# Altium footprint library all_kalex_Library.PcbLib: 234 footprints (part 11 of 15)
Each footprint in its own frame and in the unit in brackets; x right, y up, seen from the top. Pads: shape width x height; smd on the part's side, far side on the other; paste and mask are expansions set on the pad; w line width, h text height; cw(c..) or ccw(c..) is an arc to the next point about the centre after c.
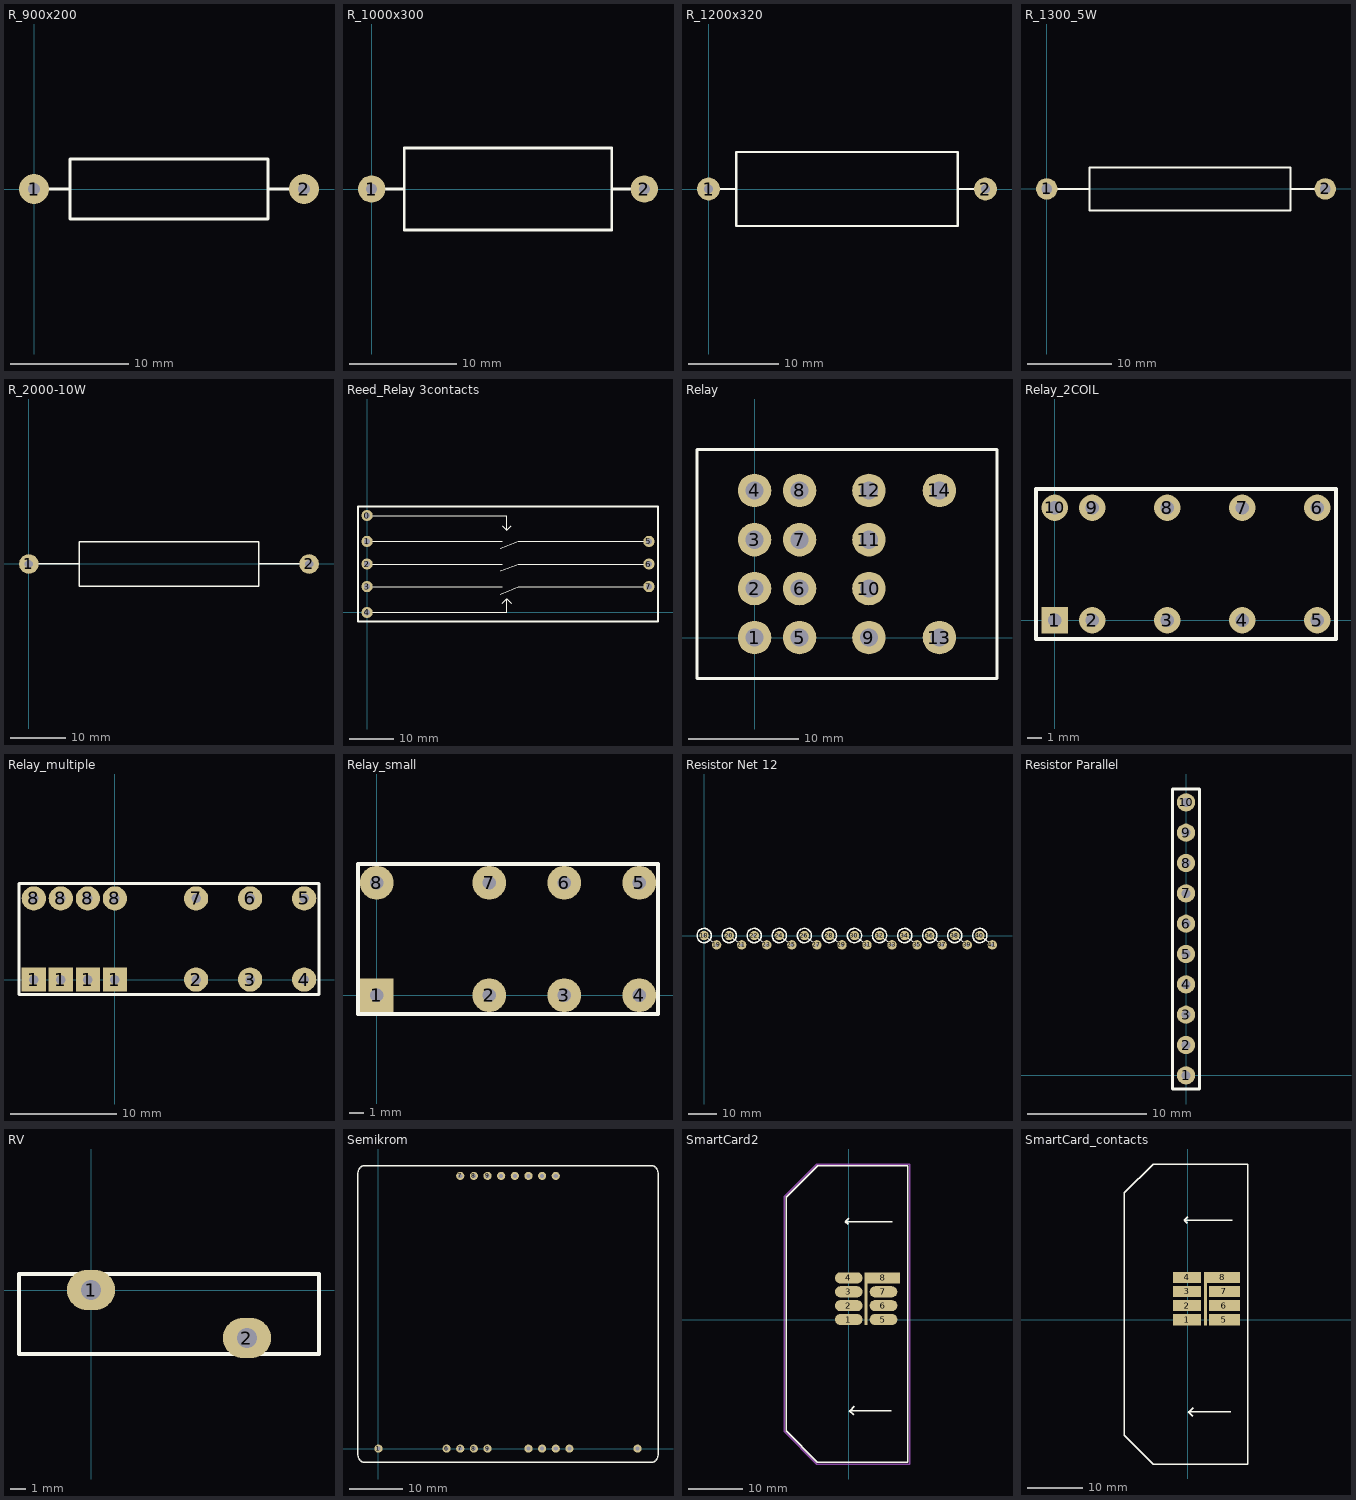
[diagram p10: the footprints below, top view; thin cyan lines are the x and y axes]

## R_900x200 [mil]
pads (2):
  round 100 hole 40: 1(0,0) 2(900,0)
Top Overlay:
  lines w10: 0,0 120,0 ; 780,0 900,0 ; 120,0 120,100 780,100 780,-100 120,-100 120,0

## R_1000x300 [mil]
pads (2):
  round 100 hole 40: 1(0,0) 2(1000,0)
Top Overlay:
  lines w10: 0,0 120,0 ; 880,0 1000,0 ; 120,-150 880,-150 880,150 120,150 120,-150

## R_1200x320 [mil]
pads (2):
  round 100 hole 40: 1(0,0) 2(1200,0)
Top Overlay:
  lines w10: 0,0 120,0 ; 1080,0 1200,0 ; 120,-160 120,160 1080,160 1080,-160 120,-160

## R_1300_5W [mil]
pads (2):
  round 100 hole 50 unplated: 1(0,0) 2(1300,0)
Top Overlay:
  lines w10: 0,0 199,0 200,1 ; 1137,0 1300,0 ; 200,1 200,100 1137,100 1137,-101 200,-101 200,1

## R_2000-10W [mil]
pads (2):
  round 140 hole 60: 1(0,0) 2(2000,0)
Top Overlay:
  lines w10: 0,0 360,0 ; 1640,0 2000,0 ; 360,0 360,-160 1640,-160 1640,160 360,160 360,0

## Reed_Relay 3contacts [mil]
pads (8):
  round 100 hole 50: 0(0,860) 1(0,630) 2(0,430) 3(0,230) 4(0,0) 5(2500,630) 6(2500,430) 7(2500,230)
Top Overlay:
  lines w5: 0,0 1240,0 1240,120 ; 0,230 1200,230 ; 0,430 1200,430 ; 0,630 1200,630 ; 0,860 1240,860 1240,730 ; 1180,160 1340,230 2500,230 ; 1180,370 1340,430 2500,430 ; 1180,570 1340,630 2500,630 ; 1200,80 1240,120 ; 1200,770 1240,730 ; 1280,80 1240,120 ; 1280,770 1240,730
  lines w20: -80,-80 -80,940 2580,940 2580,-80 -80,-80

## Relay [mil]
pads (14):
  round 120 hole 65 unplated: 1(0,0) 2(0,175) 3(0,350) 4(0,526) 5(161,0) 6(161,175) 7(161,350) 8(161,526) 9(409,0) 10(409,175) 11(409,350) 12(409,526) 13(661,0) 14(661,526)
Top Overlay:
  lines w10: -206,-147 867,-147 867,673 -206,673 -206,-147

## Relay_2COIL [mil]
pads (10):
  rect 70x70 hole 35: 1(0,0)
  round 70 hole 35: 2(100,0) 3(300,0) 4(500,0) 5(700,0) 6(700,300) 7(500,300) 8(300,300) 9(100,300) 10(0,300)
Top Overlay:
  lines w10: -50,-50 750,-50 750,350 -50,350 -50,-50

## Relay_multiple [mil]
pads (14):
  rect 90x90 hole 35: 1(-300,0) 1(-200,0) 1(-100,0) 1(0,0)
  round 90 hole 35: 2(300,0) 3(500,0) 4(700,0) 5(700,300) 6(500,300) 7(300,300) 8(-300,300) 8(-200,300) 8(-100,300) 8(0,300)
Top Overlay:
  lines w10: -355,-55 755,-55 755,355 -355,355 -355,-55

## Relay_small [mil]
pads (8):
  rect 90x90 hole 35: 1(0,0)
  round 90 hole 35: 2(300,0) 3(500,0) 4(700,0) 5(700,300) 6(500,300) 7(300,300) 8(0,300)
Top Overlay:
  lines w10: -50,-50 750,-50 750,350 -50,350 -50,-50

## Resistor Net 12 [mil]
pads (24):
  round 130 hole 45: 18(0,0) 19(174,-130) 20(348,0) 21(522,-130) 22(696,0) 23(870,-130) 24(1044,0) 25(1218,-130) 26(1392,0) 27(1566,-130) 28(1740,0) 29(1914,-130) 30(2088,0) 31(2262,-130) 32(2436,0) 33(2610,-130) 34(2784,0) 35(2958,-130) 36(3132,0) 37(3306,-130) 38(3480,0) 39(3654,-130) 40(3828,0) 41(4002,-130)
Top Overlay:
  circle w20: c3828,0 r98.66
  circle w20: c3480,0 r98.66
  circle w20: c3132,0 r98.66
  circle w20: c2784,0 r98.66
  circle w20: c2436,0 r98.66
  circle w20: c2088,0 r98.66
  circle w20: c1740,0 r98.66
  circle w20: c1392,0 r98.66
  circle w20: c1044,0 r98.66
  circle w20: c696,0 r98.66
  circle w20: c348,0 r98.66
  circle w20: c0,0 r98.66
  lines w10: 0,0 174,-130 ; 348,0 522,-130 ; 696,0 873,-127 ; 1044,0 1218,-130 ; 1392,0 1567,-129 ; 1740,0 1914,-130 ; 2088,0 2262,-130 ; 2436,0 2610,-130 ; 2784,0 2958,-130 ; 3132,0 3306,-130 ; 3480,0 3654,-130 ; 3828,0 4005,-127

## Resistor Parallel [mil] "10Pins"
pads (10):
  round 60 hole 30: 1(0,0) 2(0,100) 3(0,200) 4(0,300) 5(0,400) 6(0,500) 7(0,600) 8(0,700) 9(0,800) 10(0,900)
Top Overlay:
  lines w10: -44,-45 -44,944 44,944 44,-45 -44,-45

## RV [mil]
pads (2):
  oval 120x100 hole 50: 1(0,0) 2(390,-120)
Top Overlay:
  lines w10: -180,-160 -180,40 570,40 570,-160 -180,-160

## Semikrom [mil]
pads (18):
  round 60 hole 30: 1(0,0) 6(500,0) 7(600,0) 7(600,2000) 8(700,0) 8(700,2000) 9(800,0) 9(800,2000) 10(900,2000) 11(1000,2000) 12(1100,0) 12(1100,2000) 13(1200,0) 13(1200,2000) 14(1300,0) 14(1300,2000) 15(1400,0) S20(1900,0)
Top Overlay:
  lines w10: -150,-50 ccw(c-100,-50) -100,-100 2000,-100 ccw(c2000,-50) 2050,-50 2050,975 2050,2025 ccw(c2000,2025) 2000,2075 -100,2075 ccw(c-100,2025) -150,2025 -150,-50

## SmartCard2 [mil]
pads (9):
  oval 200x80 smd: 1(0,0) 2(0,100) 3(0,200) 4(0,300) 5(250,0) 6(250,100) 7(250,200)
  rect 240x80 smd: 8(250,300)
  rect 20x380 smd: 9(125,150)
Top Overlay:
  lines w10: -450,-795 -450,-801 ; -136,1105 -135,1106 ; -5,685 -25,705 ; 0,730 -25,705 ; 35,-685 5,-655 ; 40,-625 10,-655 5,-655 ; 305,-655 5,-655 ; 315,705 -25,705 ; -450,-801 -225,-1026 425,-1026 425,1106 -225,1106 -225,1105 -450,880 -450,-801
Mechanical 15:
  lines w10: -465,-805 -465,885 -235,1115 -230,1120 440,1120 440,-1040 -230,-1040 -465,-805

## SmartCard_contacts [mil]
pads (9):
  rect 200x80 smd: 1(-5,0) 2(-5,100) 3(-5,200) 4(-5,300)
  rect 220x80 smd: 5(260,0) 6(260,100) 7(260,200)
  rect 240x80 smd: 8(250,300)
  rect 20x380 smd: 9(125,150)
Top Overlay:
  lines w10: -450,-801 -450,902 -246,1106 -225,1106 425,1106 425,-1026 -245,-1026 -450,-821 -450,-795 ; -5,685 -25,705 ; 0,730 -25,705 ; 35,-685 5,-655 ; 40,-625 10,-655 5,-655 ; 305,-655 5,-655 ; 315,705 -25,705